# Altium schematic symbol library A765KG106M1ELAE035.SchLib: 1 symbol
Pins are listed as number, name and electrical type; pins without a type are passive.

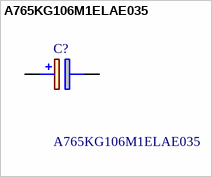
[diagram p0: symbol A765KG106M1ELAE035]

## A765KG106M1ELAE035
designator C?
A765, Aluminum, Polymer Aluminum, 10 uF, 20%, 25 VDC, -55/+105C, 105C, -55C, 105C, 2,000 Hrs, 35 mOhms, 125 uA, 8mm, 7mm; Manufacturer_Name: Yageo Group; Geometry.Height: 7.3mm; Mouser Part Number: 80-A765KG106M1ELAE35; Mouser Price/Stock: https://www.mouser.co.uk/ProductDetail/KEMET/A765KG106M1ELAE035?qs=W%2FMpXkg%252BdQ53XAW4ytn24A%3D%3D; Manufacturer_Part_Number: A765KG106M1ELAE035; Datasheet Link: https://content.kemet.com/datasheets/KEM_A4070_A765.pdf
footprint CAPAE830X730N
pins: 1 +, 2 -